# Altium schematic symbol library AO3401A.SchLib: 1 symbol
Pins are listed as number, name and electrical type; pins without a type are passive.

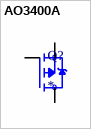
[diagram p0: symbol AO3400A]

## AO3400A
designator Q?
Trans MOSFET N-CH 30V 5.7A 3-Pin SOT-23; MF: {'manufacturer': u'Alpha '}; MP: AO3400A; Package: None; Price: None; Value: *; Availability: Unavailable
footprint SOT95P280X125-3N
pins: 1 G, 2 S, 3 D